# Altium footprint library PcbLib1.PcbLib: 1 footprints
Each footprint in its own frame and in the unit in brackets; x right, y up, seen from the top. Pads: shape width x height; smd on the part's side, far side on the other; paste and mask are expansions set on the pad; w line width, h text height; cw(c..) or ccw(c..) is an arc to the next point about the centre after c.
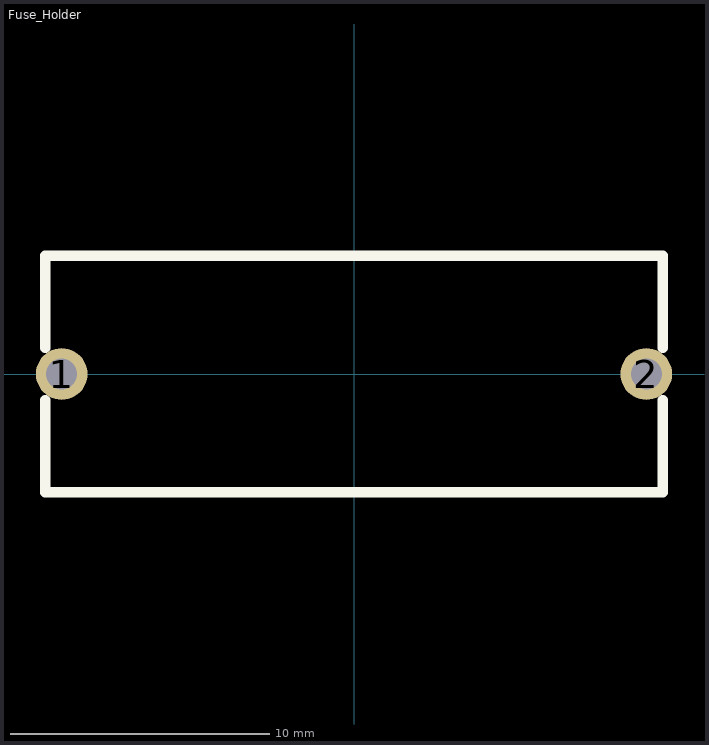
[diagram p0: the footprint, top view; thin cyan lines are the x and y axes]

## Fuse_Holder [mm]
pads (2):
  round 2 hole 1.2: 1(-11.3,0) 2(11.3,0)
Top Overlay:
  lines w0.4: -11.938,-1.016 -11.938,-4.572 11.938,-4.572 11.938,-1.016 ; -11.938,1.016 -11.938,4.572 11.938,4.572 11.938,1.016
3D body "MC000827--3DModel-STEP-56544.STEP": height 13.5, standoff -4.2, extent -11.9,-4.5 11.9,4.5